# Altium schematic symbol library AD8591.SchLib: 1 symbol
Pins are listed as number, name and electrical type; pins without a type are passive.

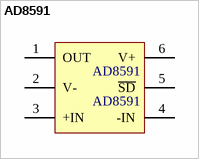
[diagram p0: symbol AD8591]

## AD8591
designator AD8591
footprint AD8591 (2.9*2.8)
pins: 1 OUT, 2 V-, 3 +IN, 4 -IN, 5 ~{SD}, 6 V+